# Altium footprint library Footprint_library.PcbLib: 95 footprints (part 6 of 6)
Each footprint in its own frame and in the unit in brackets; x right, y up, seen from the top. Pads: shape width x height; smd on the part's side, far side on the other; paste and mask are expansions set on the pad; w line width, h text height; cw(c..) or ccw(c..) is an arc to the next point about the centre after c.
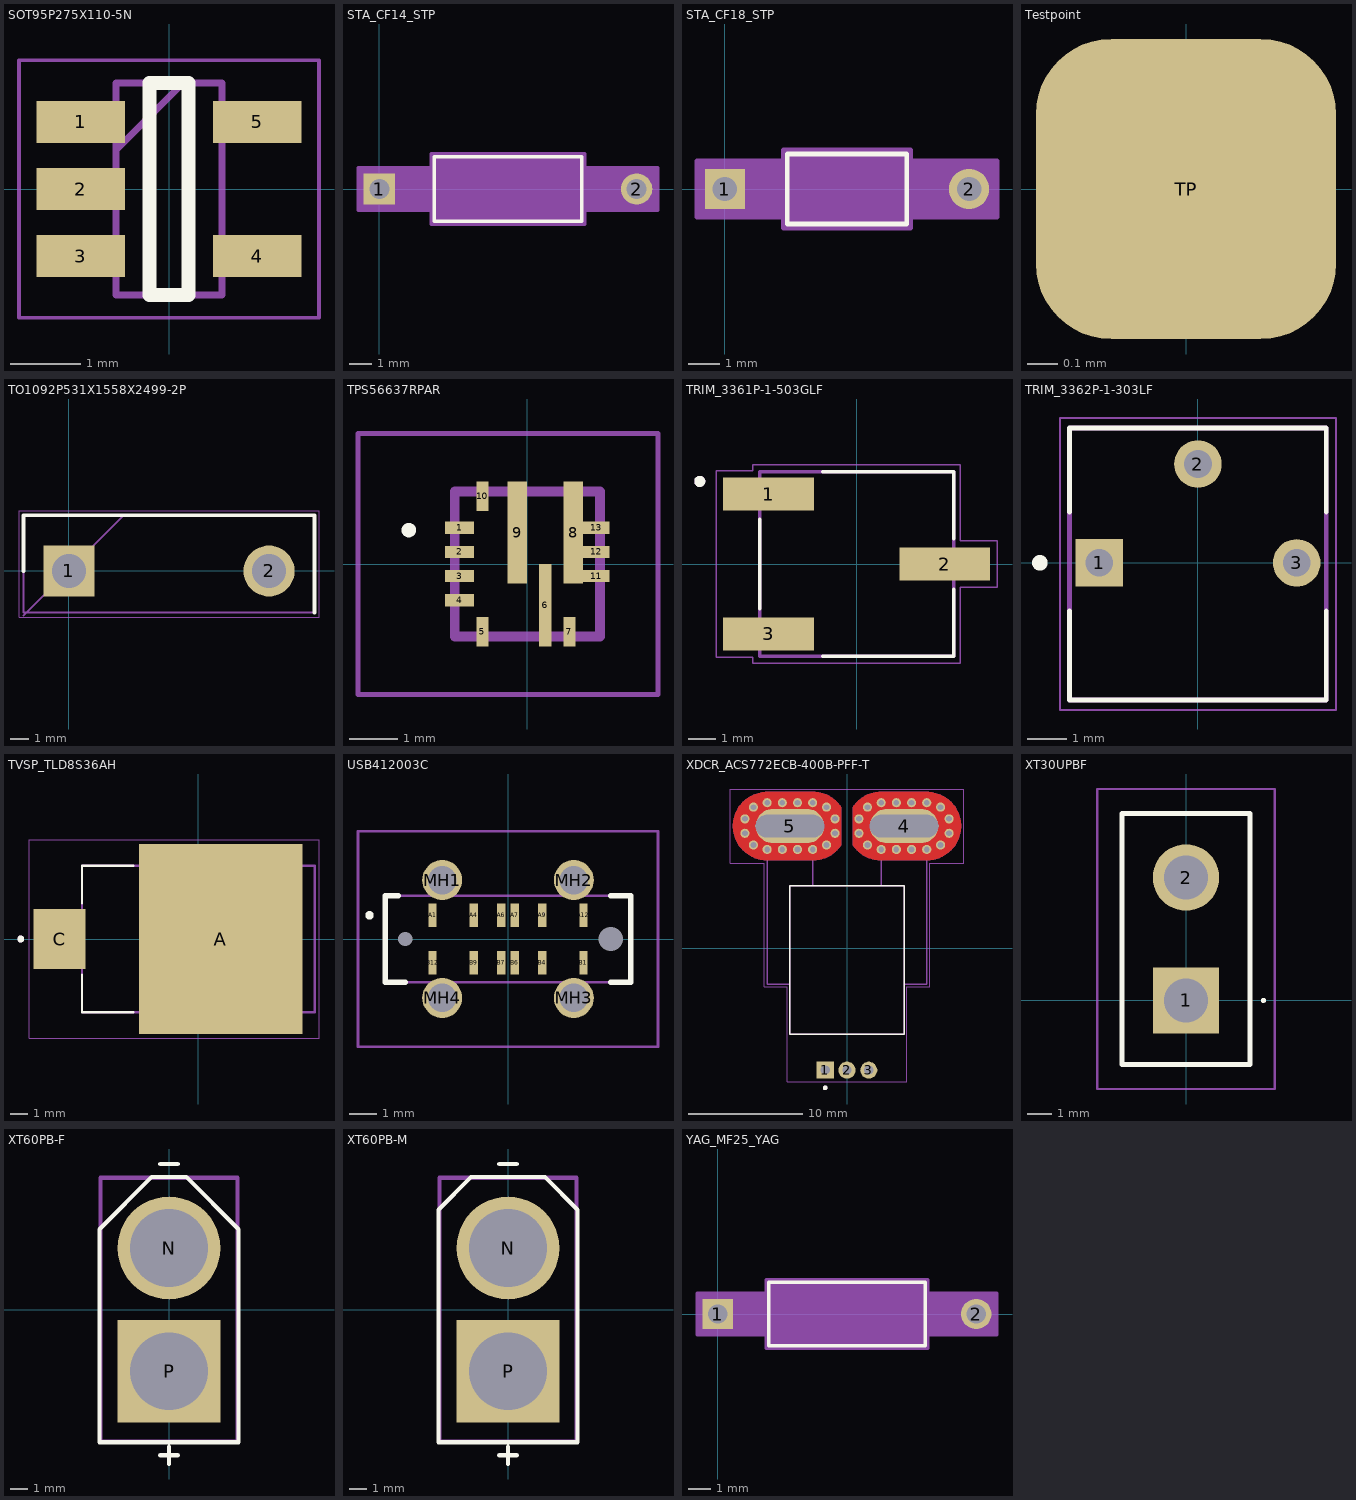
[diagram p5: the footprints below, top view; thin cyan lines are the x and y axes]

## SOT95P275X110-5N [mm]
pads (5):
  rect 1.25x0.6 smd: 1(-1.25,0.95) 2(-1.25,0) 3(-1.25,-0.95) 4(1.25,-0.95) 5(1.25,0.95)
Top Overlay:
  lines w0.2: -0.275,-1.5 0.275,-1.5 0.275,1.5 -0.275,1.5 -0.275,-1.5
Mechanical 13:
  lines w0.1: -0.75,0.55 0.2,1.5 ; -0.75,-1.5 0.75,-1.5 0.75,1.5 -0.75,1.5 -0.75,-1.5
Mechanical 15:
  lines w0.05: -2.125,-1.825 2.125,-1.825 2.125,1.825 -2.125,1.825 -2.125,-1.825
3D body "LM321SN3T1G.stp": height 1.1, standoff 0, extent -1.375,-1.5 1.375,1.5

## STA_CF14_STP [mil]
pads (2):
  rect 55x55 hole 35 paste-99999 mask+0: 1(0,0)
  round 55 hole 35 paste-99999 mask+0: 2(450,0)
Top Overlay:
  lines w6: 96,-56.5 96,56.5 354,56.5 354,-56.5 96,-56.5
  text ".Designator" at 87.5,-25 h50
Mechanical 13:
  lines w1: 0,0 101,0 ; 349,0 450,0 ; 101,-51.5 101,51.5 349,51.5 349,-51.5 101,-51.5
  text ".Designator" at 87.5,-25 h50
Mechanical 15:
  region: 91,-37.5 -37.5,-37.5 -37.5,37.5 91,37.5 91,61.5 359,61.5 359,37.5 487.5,37.5 487.5,-37.5 359,-37.5 359,-61.5 91,-61.5
  lines w6: -37.5,-37.5 91,-37.5 91,-61.5 359,-61.5 359,-37.5 487.5,-37.5 487.5,37.5 359,37.5 359,61.5 91,61.5 91,37.5 -37.5,37.5 -37.5,-37.5
3D body "STA_CF14_STP.step": height 103, standoff -110, extent -12.48,-51.12 462.48,51.12

## STA_CF18_STP [mil]
pads (2):
  rect 51x51 hole 31 paste-99999 mask+0: 1(0,0)
  round 51 hole 31 paste-99999 mask+0: 2(310,0)
Top Overlay:
  lines w6: 79,-44.5 231,-44.5 231,44.5 79,44.5 79,-44.5
  text ".Designator" at 17.5,-25 h50
Mechanical 13:
  lines w1: 0,0 84,0 ; 226,0 310,0 ; 84,-39.5 226,-39.5 226,39.5 84,39.5 84,-39.5
  text ".Designator" at 17.5,-25 h50
Mechanical 15:
  region: 74,-35.5 -35.5,-35.5 -35.5,35.5 74,35.5 74,49.5 236,49.5 236,35.5 345.5,35.5 345.5,-35.5 236,-35.5 236,-49.5 74,-49.5
  lines w6: -35.5,-35.5 -35.5,35.5 74,35.5 74,49.5 236,49.5 236,35.5 345.5,35.5 345.5,-35.5 236,-35.5 236,-49.5 74,-49.5 74,-35.5 -35.5,-35.5
3D body "STA_CF18_STP.step": height 78.99, standoff -110, extent -10.51,-39.21 320.51,39.21

## Testpoint [mm]
pads (1):
  rrect50% 1x1 smd: TP(0,0)

## TO1092P531X1558X2499-2P [mm]
pads (2):
  rect 2.79x2.79 hole 1.86: 1(0,0)
  round 2.79 hole 1.86: 2(10.92,0)
Top Overlay:
  lines w0.2: -2.475,0 -2.475,3.035 13.395,3.035 13.395,-2.275
Mechanical 13:
  lines w0.1: -2.475,-2.425 2.985,3.035 ; -2.475,-2.275 -2.475,3.035 13.395,3.035 13.395,-2.275 -2.475,-2.275
Mechanical 15:
  lines w0.05: -2.725,-2.525 -2.725,3.285 13.645,3.285 13.645,-2.525 -2.725,-2.525
3D body "VS-60EPU04-N3.stp": height 25.05, standoff -10.76, extent -2.395,-2.214 13.305,2.807

## TPS56637RPAR [mm]
pads (13):
  rect 0.6x0.25 smd mask+0: 1(-1.4,0.75) 2(-1.4,0.25) 3(-1.4,-0.25) 4(-1.4,-0.75)
  rect 0.25x0.6 smd mask+0: 5(-0.93,-1.4) 7(0.87,-1.4) 10(-0.93,1.4)
  rect 0.25x1.7 smd mask+0: 6(0.37,-0.85)
  rect 0.4x2.1 smd mask+0: 8(0.95,0.65) 9(-0.21,0.65)
  rect 0.56x0.25 smd mask+0: 11(1.42,-0.25) 12(1.42,0.25) 13(1.42,0.75)
Top Overlay:
  lines w0.2: -2.5,0.7 ccw(c-2.45,0.7) -2.4,0.7 ; -2.5,0.7 cw(c-2.45,0.7) -2.4,0.7 ; -2.5,0.7 ccw(c-2.45,0.7) -2.4,0.7
Mechanical 13:
  lines w0.2: -1.5,-1.5 -1.5,1.5 1.5,1.5 1.5,-1.5 -1.5,-1.5
Mechanical 15:
  lines w0.1: -3.5,-2.7 -3.5,2.7 2.7,2.7 2.7,-2.7 -3.5,-2.7
3D body "TPS56637RPAR.stp": height 1, standoff 0, extent -1.55,-1.55 1.55,1.55

## TRIM_3361P-1-503GLF [mm]
height 5.84
pads (3):
  rect 3.3x1.19 smd: 1(-3.2,2.54) 2(3.2,0) 3(-3.2,-2.54)
Top Overlay:
  circle w0.2: c-5.7,3 r0.1
  lines w0.127: -3.52,-1.625 -3.52,1.625 ; -1.23,-3.355 3.52,-3.355 3.52,-0.915 ; -1.23,3.355 3.52,3.355 3.52,0.915
Mechanical 13:
  circle w0.2: c-5.7,3 r0.1
  lines w0.127: -3.52,-3.355 -3.52,3.355 3.52,3.355 3.52,-3.355 -3.52,-3.355
Mechanical 15:
  lines w0.05: -5.1,-3.385 -5.1,3.385 -3.77,3.385 -3.77,3.605 3.77,3.605 3.77,0.845 5.1,0.845 5.1,-0.845 3.77,-0.845 3.77,-3.605 -3.77,-3.605 -3.77,-3.385 -5.1,-3.385
3D body "step_temp.STEP": height 5.84, standoff 0, extent -4.265,-3.355 4.265,3.355

## TRIM_3362P-1-303LF [mm]
pads (3):
  rect 1.222x1.222 hole 0.714: 1(-2.54,0)
  round 1.222 hole 0.714: 2(0,2.54) 3(2.54,0)
Top Overlay:
  circle w0.2: c-4.064,0 r0.1
  lines w0.127: -3.3,-3.53 3.3,-3.53 ; -3.3,-3.52 -3.3,-1.235 ; -3.3,1.305 -3.3,3.47 3.3,3.47 3.3,1.305 ; 3.3,-3.52 3.3,-1.235
Mechanical 13:
  lines w0.127: -3.3,-3.53 -3.3,3.47 3.3,3.47 3.3,-3.53 -3.3,-3.53
Mechanical 15:
  lines w0.05: -3.55,-3.78 -3.55,3.72 3.55,3.72 3.55,-3.78 -3.55,-3.78
3D body "step_temp.STEP": height 4.88, standoff -5.84, extent -3.3,-3.495 3.3,3.495

## TVSP_TLD8S36AH [mm]
height 5.5
pads (2):
  rect 9.5x11 smd paste-7: A(1.3,0)
  rect 3x3.5 smd: C(-8.05,0)
Top Overlay:
  circle w0.2: c-10.3,0 r0.1
  lines w0.127: -6.75,-2.07 -6.75,-4.25 -3.77,-4.25 ; -6.75,2.07 -6.75,4.25 -3.77,4.25
Top Paste:
  region: 0.83,0.31 -0.61,0.31 -0.61,1.52 0.83,1.52
  region: 0.83,-1.52 -0.61,-1.52 -0.61,-0.31 0.83,-0.31
  region: 0.83,2.14 -0.61,2.14 -0.61,3.35 0.83,3.35
  region: 0.83,3.97 -0.61,3.97 -0.61,5.18 0.83,5.18
  region: 0.83,-3.35 -0.61,-3.35 -0.61,-2.14 0.83,-2.14
  region: 0.83,-5.18 -0.61,-5.18 -0.61,-3.97 0.83,-3.97
  region: 3.21,0.31 1.77,0.31 1.77,1.52 3.21,1.52
  region: 3.21,-1.52 1.77,-1.52 1.77,-0.31 3.21,-0.31
  region: 3.21,2.14 1.77,2.14 1.77,3.35 3.21,3.35
  region: 3.21,3.97 1.77,3.97 1.77,5.18 3.21,5.18
  region: 3.21,-3.35 1.77,-3.35 1.77,-2.14 3.21,-2.14
  region: 3.21,-5.18 1.77,-5.18 1.77,-3.97 3.21,-3.97
  region: -1.55,0.31 -2.99,0.31 -2.99,1.52 -1.55,1.52
  region: -1.55,-1.52 -2.99,-1.52 -2.99,-0.31 -1.55,-0.31
  region: -1.55,2.14 -2.99,2.14 -2.99,3.35 -1.55,3.35
  region: -1.55,3.97 -2.99,3.97 -2.99,5.18 -1.55,5.18
  region: -1.55,-3.35 -2.99,-3.35 -2.99,-2.14 -1.55,-2.14
  region: -1.55,-5.18 -2.99,-5.18 -2.99,-3.97 -1.55,-3.97
  region: 5.59,0.31 4.15,0.31 4.15,1.52 5.59,1.52
  region: 5.59,-1.52 4.15,-1.52 4.15,-0.31 5.59,-0.31
  region: 5.59,2.14 4.15,2.14 4.15,3.35 5.59,3.35
  region: 5.59,3.97 4.15,3.97 4.15,5.18 5.59,5.18
  region: 5.59,-3.35 4.15,-3.35 4.15,-2.14 5.59,-2.14
  region: 5.59,-5.18 4.15,-5.18 4.15,-3.97 5.59,-3.97
Mechanical 13:
  circle w0.2: c-10.3,0 r0.1
  lines w0.127: -6.75,-4.25 6.75,-4.25 6.75,4.25 -6.75,4.25 -6.75,-4.25
Mechanical 15:
  lines w0.05: -9.8,-5.75 -9.8,5.75 7,5.75 7,-5.75 -9.8,-5.75
3D body "step_temp.STEP": height 5.5, standoff 0, extent -8.75,-5 6.75,5

## USB412003C [mm]
pads (18):
  rect 0.3x0.87 smd: A1(-2.75,0.865) A4(-1.25,0.865) A6(-0.25,0.865) A7(0.25,0.865) A9(1.25,0.865) A12(2.75,0.865) B1(2.75,-0.865) B4(1.25,-0.865) B6(0.25,-0.865) B7(-0.25,-0.865) B9(-1.25,-0.865) B12(-2.75,-0.865)
  round 1.46 hole 1.04: MH1(-2.4,2.15) MH2(2.4,2.15) MH3(2.4,-2.15) MH4(-2.4,-2.15)
  round 0.26 hole 0.52 unplated: MH5(-3.75,0)
  round 0.445 hole 0.89 unplated: MH6(3.75,0)
Top Overlay:
  lines w0.2: -5.1,0.865 ccw(c-5.05,0.865) -5,0.865 ; -5.1,0.865 cw(c-5.05,0.865) -5,0.865 ; -5.1,0.865 -5,0.865 ; -4.47,-1.58 -3.75,-1.58 -4.47,-1.58 ; -4.47,-1.58 -4.47,1.58 ; -4.47,-1.58 -4.47,1.58 ; -4.47,1.58 -4,1.58 -4.47,1.58 ; 4.47,-1.58 3.75,-1.58 4.47,-1.58 ; 4.47,-1.58 4.47,1.58 ; 4.47,-1.58 4.47,1.58 ; 4.47,1.58 3.75,1.58 4.47,1.58
Mechanical 13:
  lines w0.1: -4.47,-1.58 4.47,-1.58 4.47,1.58 -4.47,1.58 -4.47,-1.58
Mechanical 15:
  lines w0.1: -5.47,-3.93 5.47,-3.93 5.47,3.93 -5.47,3.93 -5.47,-3.93
3D body "USB4120-03-C.stp": height 6.5, standoff -0.95, extent -4.47,-2.3 4.47,2.3

## XDCR_ACS772ECB-400B-PFF-T [mm]
height 7.1
pads (37):
  rect 1.5x1.5 / inner round 1.5 / far side rect 1.5x1.5 hole 0.8: 1(-1.91,-10.7)
  round 1.5 hole 0.8: 2(0,-10.7) 3(1.91,-10.7)
  oval 6x3 hole 2 slot 6 at 0 deg mask+0: 4(5,10.7) 5(-5,10.7)
  round 0.8 hole 0.5: 4_1(3,8.65) 4_2(4.33,8.65) 4_3(5.66,8.65) 4_4(6.99,8.65) 4_5(8.205,9.042) 4_6(8.95,10.067) 4_7(8.95,11.333) 4_8(8.205,12.358) 4_9(6.99,12.75) 4_10(5.66,12.75) 4_11(4.33,12.75) 4_12(3,12.75) 4_13(1.795,12.358) 4_14(1.05,11.333) 4_15(1.05,10.067) 4_16(1.795,9.042) 5_1(-7,8.65) 5_2(-5.67,8.65) 5_3(-4.34,8.65) 5_4(-3.01,8.65) 5_5(-1.795,9.042) 5_6(-1.05,10.067) 5_7(-1.05,11.333) 5_8(-1.795,12.358) 5_9(-3.01,12.75) 5_10(-4.34,12.75) 5_11(-5.67,12.75) 5_12(-7,12.75) 5_13(-8.205,12.358) 5_14(-8.95,11.333) 5_15(-8.95,10.067) 5_16(-8.205,9.042)
Top Layer:
  region: -2.885,13.698 -2.787,13.694 -2.689,13.685 -2.591,13.674 -2.493,13.659 -2.396,13.641 -2.3,13.62 -2.205,13.596 -2.11,13.569 -2.016,13.538 -1.924,13.504 -1.832,13.468 -1.742,13.428 -1.653,13.385 -1.566,13.34 -1.48,13.291 -1.396,13.24 -1.313,13.186 -1.233,13.129 -1.154,13.07 -1.077,13.008 -1.003,12.944 -0.931,12.877 -0.86,12.807 -0.793,12.736 -0.727,12.662 -0.664,12.586 -0.604,12.508 -0.546,12.428 -0.5,12.36 -0.5,9.04 -0.546,8.972 -0.604,8.892 -0.664,8.814 -0.727,8.738 -0.793,8.664 -0.86,8.593 -0.931,8.523 -1.003,8.456 -1.077,8.392 -1.154,8.33 -1.233,8.271 -1.313,8.214 -1.396,8.16 -1.48,8.109 -1.566,8.06 -1.653,8.015 -1.742,7.972 -1.832,7.932 -1.924,7.896 -2.016,7.862 -2.11,7.831 -2.205,7.804 -2.3,7.78 -2.396,7.759 -2.493,7.741 -2.591,7.726 -2.689,7.715 -2.787,7.706 -2.885,7.702 -3,7.7 -7,7.7 -7.157,7.704 -7.314,7.716 -7.469,7.737 -7.624,7.766 -7.776,7.802 -7.927,7.847 -8.075,7.899 -8.22,7.959 -8.362,8.027 -8.5,8.102 -8.634,8.184 -8.763,8.273 -8.888,8.369 -9.007,8.471 -9.121,8.579 -9.229,8.693 -9.331,8.812 -9.427,8.937 -9.516,9.066 -9.598,9.2 -9.673,9.338 -9.741,9.48 -9.801,9.625 -9.853,9.773 -9.898,9.924 -9.934,10.076 -9.963,10.231 -9.984,10.386 -9.996,10.543 -10,10.7 -9.996,10.857 -9.984,11.014 -9.963,11.169 -9.934,11.324 -9.898,11.476 -9.853,11.627 -9.801,11.775 -9.741,11.92 -9.673,12.062 -9.598,12.2 -9.516,12.334 -9.427,12.463 -9.331,12.588 -9.229,12.707 -9.121,12.821 -9.007,12.929 -8.888,13.031 -8.763,13.127 -8.634,13.216 -8.5,13.298 -8.362,13.373 -8.22,13.441 -8.075,13.501 -7.927,13.553 -7.776,13.598 -7.624,13.634 -7.469,13.663 -7.314,13.684 -7.157,13.696 -7,13.7 -3,13.7
  region: 7.157,13.696 7.314,13.684 7.469,13.663 7.624,13.634 7.776,13.598 7.927,13.553 8.075,13.501 8.22,13.441 8.362,13.373 8.5,13.298 8.634,13.216 8.763,13.127 8.888,13.031 9.007,12.929 9.121,12.821 9.229,12.707 9.331,12.588 9.427,12.463 9.516,12.334 9.598,12.2 9.673,12.062 9.741,11.92 9.801,11.775 9.853,11.627 9.898,11.476 9.934,11.324 9.963,11.169 9.984,11.014 9.996,10.857 10,10.7 9.996,10.543 9.984,10.386 9.963,10.231 9.934,10.076 9.898,9.924 9.853,9.773 9.801,9.625 9.741,9.48 9.673,9.338 9.598,9.2 9.516,9.066 9.427,8.937 9.331,8.812 9.229,8.693 9.121,8.579 9.007,8.471 8.888,8.369 8.763,8.273 8.634,8.184 8.5,8.102 8.362,8.027 8.22,7.959 8.075,7.899 7.927,7.847 7.776,7.802 7.624,7.766 7.469,7.737 7.314,7.716 7.157,7.704 7,7.7 3,7.7 2.885,7.702 2.787,7.706 2.689,7.715 2.591,7.726 2.493,7.741 2.396,7.759 2.3,7.78 2.205,7.804 2.11,7.831 2.016,7.862 1.924,7.896 1.832,7.932 1.742,7.972 1.653,8.015 1.566,8.06 1.48,8.109 1.396,8.16 1.313,8.214 1.233,8.271 1.154,8.33 1.077,8.392 1.003,8.456 0.931,8.523 0.86,8.593 0.793,8.664 0.727,8.738 0.664,8.814 0.604,8.892 0.546,8.972 0.5,9.04 0.5,12.36 0.546,12.428 0.604,12.508 0.664,12.586 0.727,12.662 0.793,12.736 0.86,12.807 0.931,12.877 1.003,12.944 1.077,13.008 1.154,13.07 1.233,13.129 1.313,13.186 1.396,13.24 1.48,13.291 1.566,13.34 1.653,13.385 1.742,13.428 1.832,13.468 1.924,13.504 2.016,13.538 2.11,13.569 2.205,13.596 2.3,13.62 2.396,13.641 2.493,13.659 2.591,13.674 2.689,13.685 2.787,13.694 2.885,13.698 3,13.7 7,13.7
Bottom Layer:
  region: 7.157,13.696 7.314,13.684 7.469,13.663 7.624,13.634 7.776,13.598 7.927,13.553 8.075,13.501 8.22,13.441 8.362,13.373 8.5,13.298 8.634,13.216 8.763,13.127 8.888,13.031 9.007,12.929 9.121,12.821 9.229,12.707 9.331,12.588 9.427,12.463 9.516,12.334 9.598,12.2 9.673,12.062 9.741,11.92 9.801,11.775 9.853,11.627 9.898,11.476 9.934,11.324 9.963,11.169 9.984,11.014 9.996,10.857 10,10.7 9.996,10.543 9.984,10.386 9.963,10.231 9.934,10.076 9.898,9.924 9.853,9.773 9.801,9.625 9.741,9.48 9.673,9.338 9.598,9.2 9.516,9.066 9.427,8.937 9.331,8.812 9.229,8.693 9.121,8.579 9.007,8.471 8.888,8.369 8.763,8.273 8.634,8.184 8.5,8.102 8.362,8.027 8.22,7.959 8.075,7.899 7.927,7.847 7.776,7.802 7.624,7.766 7.469,7.737 7.314,7.716 7.157,7.704 7,7.7 3,7.7 2.885,7.702 2.787,7.706 2.689,7.715 2.591,7.726 2.493,7.741 2.396,7.759 2.3,7.78 2.205,7.804 2.11,7.831 2.016,7.862 1.924,7.896 1.832,7.932 1.742,7.972 1.653,8.015 1.566,8.06 1.48,8.109 1.396,8.16 1.313,8.214 1.233,8.271 1.154,8.33 1.077,8.392 1.003,8.456 0.931,8.523 0.86,8.593 0.793,8.664 0.727,8.738 0.664,8.814 0.604,8.892 0.546,8.972 0.5,9.04 0.5,12.36 0.546,12.428 0.604,12.508 0.664,12.586 0.727,12.662 0.793,12.736 0.86,12.807 0.931,12.877 1.003,12.944 1.077,13.008 1.154,13.07 1.233,13.129 1.313,13.186 1.396,13.24 1.48,13.291 1.566,13.34 1.653,13.385 1.742,13.428 1.832,13.468 1.924,13.504 2.016,13.538 2.11,13.569 2.205,13.596 2.3,13.62 2.396,13.641 2.493,13.659 2.591,13.674 2.689,13.685 2.787,13.694 2.885,13.698 3,13.7 7,13.7
  region: -2.885,13.698 -2.787,13.694 -2.689,13.685 -2.591,13.674 -2.493,13.659 -2.396,13.641 -2.3,13.62 -2.205,13.596 -2.11,13.569 -2.016,13.538 -1.924,13.504 -1.832,13.468 -1.742,13.428 -1.653,13.385 -1.566,13.34 -1.48,13.291 -1.396,13.24 -1.313,13.186 -1.233,13.129 -1.154,13.07 -1.077,13.008 -1.003,12.944 -0.931,12.877 -0.86,12.807 -0.793,12.736 -0.727,12.662 -0.664,12.586 -0.604,12.508 -0.546,12.428 -0.5,12.36 -0.5,9.04 -0.546,8.972 -0.604,8.892 -0.664,8.814 -0.727,8.738 -0.793,8.664 -0.86,8.593 -0.931,8.523 -1.003,8.456 -1.077,8.392 -1.154,8.33 -1.233,8.271 -1.313,8.214 -1.396,8.16 -1.48,8.109 -1.566,8.06 -1.653,8.015 -1.742,7.972 -1.832,7.932 -1.924,7.896 -2.016,7.862 -2.11,7.831 -2.205,7.804 -2.3,7.78 -2.396,7.759 -2.493,7.741 -2.591,7.726 -2.689,7.715 -2.787,7.706 -2.885,7.702 -3,7.7 -7,7.7 -7.157,7.704 -7.314,7.716 -7.469,7.737 -7.624,7.766 -7.776,7.802 -7.927,7.847 -8.075,7.899 -8.22,7.959 -8.362,8.027 -8.5,8.102 -8.634,8.184 -8.763,8.273 -8.888,8.369 -9.007,8.471 -9.121,8.579 -9.229,8.693 -9.331,8.812 -9.427,8.937 -9.516,9.066 -9.598,9.2 -9.673,9.338 -9.741,9.48 -9.801,9.625 -9.853,9.773 -9.898,9.924 -9.934,10.076 -9.963,10.231 -9.984,10.386 -9.996,10.543 -10,10.7 -9.996,10.857 -9.984,11.014 -9.963,11.169 -9.934,11.324 -9.898,11.476 -9.853,11.627 -9.801,11.775 -9.741,11.92 -9.673,12.062 -9.598,12.2 -9.516,12.334 -9.427,12.463 -9.331,12.588 -9.229,12.707 -9.121,12.821 -9.007,12.929 -8.888,13.031 -8.763,13.127 -8.634,13.216 -8.5,13.298 -8.362,13.373 -8.22,13.441 -8.075,13.501 -7.927,13.553 -7.776,13.598 -7.624,13.634 -7.469,13.663 -7.314,13.684 -7.157,13.696 -7,13.7 -3,13.7
Top Overlay:
  circle w0.2: c-1.91,-12.25 r0.1
  lines w0.127: -5,-7.55 -5,5.45 5,5.45 5,-7.55 -5,-7.55
Top Solder:
  drawing of 2 lines, arcs and shapes, not listed
Bottom Solder:
  drawing of 2 lines, arcs and shapes, not listed
Mechanical 1:
  lines w0: -5,11.7 -4.95,11.7 ; 5,11.7 5.05,11.7
Mechanical 13:
  circle w0.2: c-1.91,-12.25 r0.1
  lines w0.127: -3,5.5 -3,11.45 -7,11.45 -7,-3.15 -5,-3.15 ; 3,5.5 3,11.45 7,11.45 7,-3.15 5,-3.15 ; -5,-3.15 -5,5.45 5,5.45 5,-7.55 -5,-7.55 -5,-3.15
Mechanical 15:
  lines w0.05: -10.25,7.45 -10.25,13.95 10.25,13.95 10.25,7.45 7.25,7.45 7.25,-3.4 5.25,-3.4 5.25,-11.7 -5.25,-11.7 -5.25,-3.4 -7.25,-3.4 -7.25,7.45 -10.25,7.45
3D body "step_temp.STEP": height 7.1, standoff -3.5, extent -7,-11.136 7,11.45

## XT30UPBF [mm]
pads (2):
  rect 2.7x2.7 hole 1.8: 1(0,0)
  round 2.7 hole 1.8: 2(0,5)
Top Overlay:
  lines w0.1: 3.1,0 ccw(c3.15,0) 3.2,0 ccw(c3.15,0) 3.1,0
  lines w0.2: -2.6,-2.6 -2.6,7.6 2.6,7.6 2.6,-2.6 -2.6,-2.6
Mechanical 13:
  lines w0.1: -2.6,-2.6 -2.6,7.6 2.6,7.6 2.6,-2.6 -2.6,-2.6
Mechanical 15:
  lines w0.1: -3.6,-3.6 -3.6,8.6 3.6,8.6 3.6,-3.6 -3.6,-3.6
3D body "XT30UPB-F.stp": height 9.41, standoff -1.99, extent -2.807,-2.6 2.807,7.6

## XT60PB-F [mm] "Connector"
height 18.7
pads (2):
  round 6 hole 4.55: N(0,3.6)
  rect 6x6 / inner round 6 / far side rect 6x6 hole 4.55: P(0,-3.6)
Top Overlay:
  lines w0.254: -4.064,4.318 -4.064,4.699 -1.016,7.747 1.016,7.747 4.064,4.699 4.064,-1.778 4.064,-7.747 -4.064,-7.747 -4.064,4.445 ; -0.508,-8.509 0.508,-8.509 ; 0,-9.017 0,-8.001 ; 0.508,8.509 0,8.509 ; 0,8.509 -0.508,8.509 0,8.509
Mechanical 1:
  lines w0.254: -4,-7.7 -4,7.7 4,7.7 4,-7.7 -4,-7.7
3D body "XT60PB-F.stp": height 16.69, standoff -3, extent -3.898,-7.795 4,7.7

## XT60PB-M [mm] "Connector"
height 18.9
pads (2):
  round 6 hole 4.55: N(0,3.6)
  rect 6x6 / inner round 6 / far side rect 6x6 hole 4.55: P(0,-3.6)
Top Overlay:
  lines w0.254: -0.508,-8.509 0.508,-8.509 ; 0,-9.017 0,-8.001 ; 0.508,8.509 0,8.509 ; 0,8.509 -0.508,8.509 0,8.509 ; -4.064,-7.747 -4.064,5.842 -2.159,7.747 2.159,7.747 4.064,5.842 4.064,-1.778 4.064,-7.747 -4.064,-7.747
Mechanical 1:
  lines w0.254: -4,-7.7 4,-7.7 4,7.7 -4,7.7 -4,-7.7
3D body "XT60PB-M.stp": height 15.9, standoff -3, extent -4,-7.7 4,7.7

## YAG_MF25_YAG [mil]
pads (2):
  rect 54x54 hole 34 paste-99999 mask+0: 1(0,0)
  round 54 hole 34 paste-99999 mask+0: 2(460,0)
Top Overlay:
  lines w6: 91,-56.5 369,-56.5 369,56.5 91,56.5 91,-56.5
  text ".Designator" at 92.5,-25 h50
Mechanical 13:
  lines w1: 0,0 96,0 ; 364,0 460,0 ; 96,-51.5 364,-51.5 364,51.5 96,51.5 96,-51.5
  text ".Designator" at 92.5,-25 h50
Mechanical 15:
  region: 86,-37 -37,-37 -37,37 86,37 86,61.5 374,61.5 374,37 497,37 497,-37 374,-37 374,-61.5 86,-61.5
  lines w6: -37,-37 -37,37 86,37 86,61.5 374,61.5 374,37 497,37 497,-37 374,-37 374,-61.5 86,-61.5 86,-37 -37,-37
3D body "YAG_MF25_YAG.step": height 103, standoff -110, extent -12.01,-51.12 472.01,51.12